# Altium footprint library B3B-PH-K-S.PcbLib: 1 footprints
Each footprint in its own frame and in the unit in brackets; x right, y up, seen from the top. Pads: shape width x height; smd on the part's side, far side on the other; paste and mask are expansions set on the pad; w line width, h text height; cw(c..) or ccw(c..) is an arc to the next point about the centre after c.
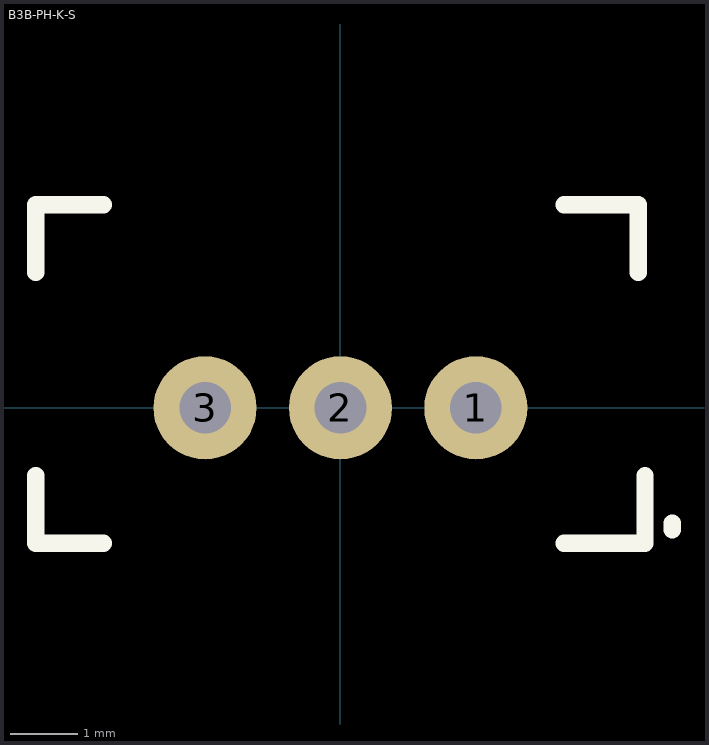
[diagram p0: the footprint, top view; thin cyan lines are the x and y axes]

## B3B-PH-K-S [mil]
pads (3):
  round 60 hole 30: 1(78.74,0) 2(0,0) 3(-78.74,0)
Top Overlay:
  lines w10: -177.17,-39.37 -177.17,-78.74 -137.8,-78.74 ; -177.17,78.74 -177.17,118.11 -137.8,118.11 ; 129.92,-78.74 177.17,-78.74 177.17,-39.37 ; 129.92,118.11 137.8,118.11 173.23,118.11 173.23,78.74 ; 192.91,-70.87 192.91,-66.93 192.91,-70.87
3D body "B3B-PH-K-S.STEP": height 236.22, standoff -133.86, extent -155.51,-66.93 155.51,110.24